# Altium schematic symbol library TVS.SchLib: 1 symbol
Pins are listed as number, name and electrical type; pins without a type are passive.

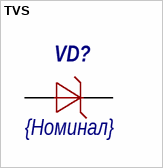
[diagram p0: symbol TVS]

## TVS
designator VD?, comment value {Номинал}  (hidden comment: Защитный диод)
pins: 1, 2